# Altium schematic symbol library MB0023A.01.A.1.SchLib: 1 symbol
Pins are listed as number, name and electrical type; pins without a type are passive.

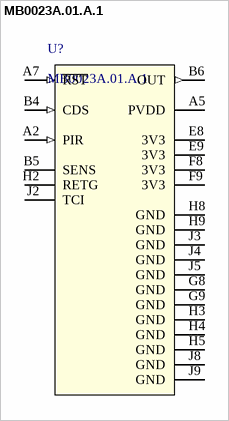
[diagram p0: symbol MB0023A.01.A.1]

## MB0023A.01.A.1
designator U?
pins: A2 PIR (in), A5 PVDD (power), A7 ~{RST} (in), B4 CDS (in), B5 SENS, B6 OUT (out), E8 3V3 (power), E9 3V3 (power), F8 3V3 (power), F9 3V3 (power), G8 GND (power), G9 GND (power), H2 RETG, H3 GND (power), H4 GND (power), H5 GND (power), H8 GND (power), H9 GND (power), J2 TCI, J3 GND (power), J4 GND (power), J5 GND (power), J8 GND (power), J9 GND (power)